# EAGLE library part CON_USB_HIROSE_MICRO_AB_ZX62D_AB_5P8 (library ek-tm4c129exl)
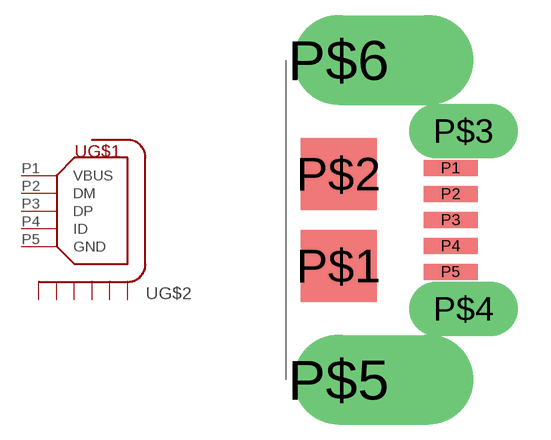
[diagram p1: symbol with the pads of CON_USB_MICRO_AB_HIROSE_ZX62D-AB-5P8; footprint CON_USB_MICRO_AB_HIROSE_ZX62D-AB-5P8]

Designator prefix -; gates G$1=MICRO_USB_5 G$2=SHIELD6

## CON_USB_HIROSE_MICRO_AB_ZX62D_AB_5P8  [CON_USB_MICRO_AB_HIROSE_ZX62D-AB-5P8]
P1  G$1:VBUS
P2  G$1:DM
P3  G$1:DP
P4  G$1:ID
P5  G$1:GND
P$1  G$2:S1  pas
P$2  G$2:S2  pas
P$3  G$2:S3  pas
P$4  G$2:S4  pas
P$5  G$2:S5  pas
P$6  G$2:S6  pas

## Footprint CON_USB_MICRO_AB_HIROSE_ZX62D-AB-5P8 (pad centres in mm)
smd 1.35 x 0.4: P1 2.8,1.3; P2 2.8,0.65; P3 2.8,0; P4 2.8,-0.65; P5 2.8,-1.3
smd 1.9 x 1.8: P$1 0,-1.15; P$2 0,1.15
drill 0.85 pad 1.092 long: P$3 3.125,2.225; P$4 3.125,-2.225
drill 1.5 pad 2 offset: P$5 0,-4; P$6 0,4